# EAGLE library part USBLC6-2 (library Mine)
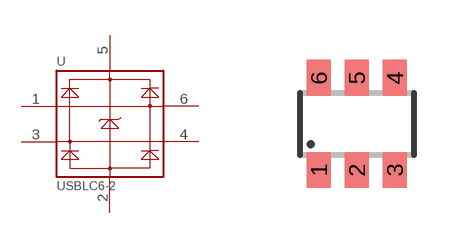
[diagram p70: symbol with the pads of SOT23-6; footprint SOT23-6]

Designator prefix -

## USBLC6-2  [SOT23-6]
1  I/O1_1
2  GND  sup
3  I/O2_1
4  I/O2_2
5  VBUS  sup
6  I/O1_2

## Footprint SOT23-6 (pad centres in mm)
Small Outline Transistor 6 lead
smd 0.6 x 0.9: 1 -0.95,-1.15; 2 0,-1.15; 3 0.95,-1.15; 4 0.95,1.15; 5 0,1.15; 6 -0.95,1.15